# Altium footprint library Pinheaders.PcbLib: 13 footprints
Each footprint in its own frame and in the unit in brackets; x right, y up, seen from the top. Pads: shape width x height; smd on the part's side, far side on the other; paste and mask are expansions set on the pad; w line width, h text height; cw(c..) or ccw(c..) is an arc to the next point about the centre after c.
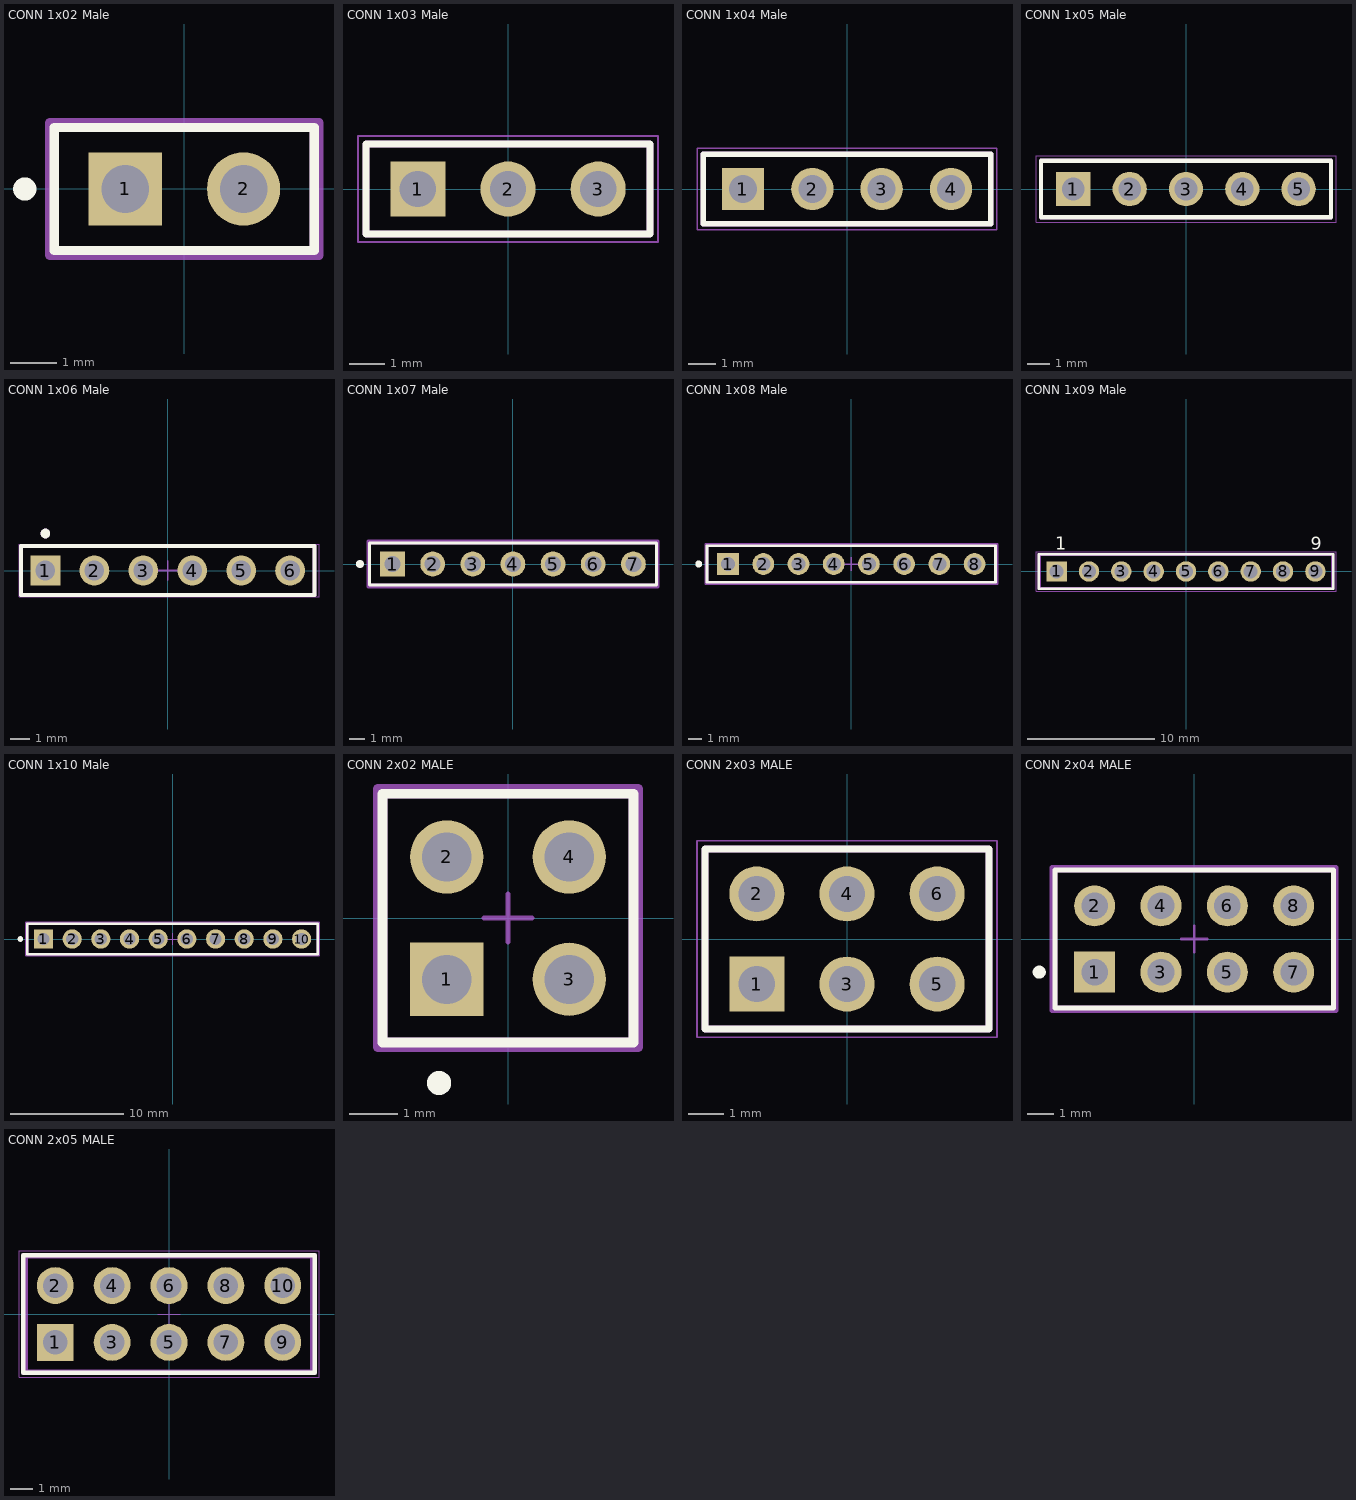
[diagram p0: the footprints below, top view; thin cyan lines are the x and y axes]

## CONN 1x02 Male [mm] "CONN HEADER VERT 2POS 2.54MM"
height 1.7
pads (2):
  rect 1.57x1.57 hole 1.02 paste-1000 mask+0: 1(-1.27,0)
  round 1.57 hole 1.02 paste-1000 mask+0: 2(1.27,0)
Top Overlay:
  circle w0.25: c-3.425,0 r0.125
  lines w0.2: -2.79,-1.32 2.79,-1.32 2.79,1.32 -2.79,1.32 -2.79,-1.32
Top Assembly:
  lines w0.2: -2.89,-1.42 -2.89,1.42 2.89,1.42 2.89,-1.42 -2.89,-1.42
  text ".Designator" at -2.251,-0.226 h1
Top 3D Body:
  lines w0.2: -2.79,-1.32 2.79,-1.32 2.79,1.32 -2.79,1.32 -2.79,-1.32
Top Courtyard:
  lines w0.2: -2.89,-1.42 2.89,-1.42 2.89,1.42 -2.89,1.42 -2.89,-1.42
3D body "Conn_Harwin_M20-9990246_eec.STEP": height 0.25, standoff 0, extent -2.89,-1.42 2.89,1.42

## CONN 1x03 Male [mm] "CONN HEADER VERT 3POS 2.54MM"
height 8.58
pads (3):
  rect 1.55x1.55 hole 1.02: 1(-2.54,0)
  round 1.55 hole 1.02: 2(0,0) 3(2.54,0)
Top Overlay:
  lines w0.2: -4,-1.27 -4,1.27 4,1.27 4,-1.27 -4,-1.27
Top Assembly:
  lines w0.2: -4,-1.27 4,-1.27 4,1.27 -4,1.27 -4,-1.27
  text "'.Designator'" at -5.248,-0.825 h0.9
Top 3D Body:
  lines w0.1: -4,-1.27 -4,1.27 4,1.27 4,-1.27 -4,-1.27
Top Courtyard:
  lines w0.05: -4.225,-1.495 -4.225,1.495 4.225,1.495 4.225,-1.495 -4.225,-1.495
3D body "TSW-103-07-X-S.step": height 8.38, standoff -2.54, extent -3.81,-1.27 3.81,1.27

## CONN 1x04 Male [mm] "CONN HEADER VERT 4POS 2.54MM"
height 8.58
pads (4):
  rect 1.55x1.55 hole 1.02: 1(-3.81,0)
  round 1.55 hole 1.02: 2(-1.27,0) 3(1.27,0) 4(3.81,0)
Top Overlay:
  lines w0.2: -5.27,-1.27 5.27,-1.27 5.27,1.27 -5.27,1.27 -5.27,-1.27
Top Assembly:
  lines w0.2: -5.27,-1.27 5.27,-1.27 5.27,1.27 -5.27,1.27 -5.27,-1.27
  text "'.Designator'" at -5.248,-0.825 h0.9
Top 3D Body:
  lines w0.1: -5.27,-1.27 5.27,-1.27 5.27,1.27 -5.27,1.27 -5.27,-1.27
Top Courtyard:
  lines w0.05: -5.495,-1.495 5.495,-1.495 5.495,1.495 -5.495,1.495 -5.495,-1.495
3D body "TSW-104-08-X-S.step": height 8.38, standoff -5.08, extent -5.08,-1.27 5.08,1.27

## CONN 1x05 Male [mm] "CONN HEADER VERT 5POS 2.54MM"
height 5.41
pads (5):
  rect 1.55x1.55 hole 1.02: 1(-5.08,0)
  round 1.55 hole 1.02: 2(-2.54,0) 3(0,0) 4(2.54,0) 5(5.08,0)
Top Overlay:
  lines w0.2: -6.54,-1.27 -6.54,1.27 6.54,1.27 6.54,-1.27 -6.54,-1.27
Top Assembly:
  lines w0.2: -6.54,-1.27 -6.54,1.27 6.54,1.27 6.54,-1.27 -6.54,-1.27
  text "'.Designator'" at -5.248,-0.825 h0.9
Top 3D Body:
  lines w0.1: -6.54,-1.27 -6.54,1.27 6.54,1.27 6.54,-1.27 -6.54,-1.27
Top Courtyard:
  lines w0.05: -6.765,-1.495 -6.765,1.495 6.765,1.495 6.765,-1.495 -6.765,-1.495
3D body "TSW-105-05-X-S.step": height 5.21, standoff -3.3, extent -6.35,-1.27 6.35,1.27

## CONN 1x06 Male [mm] "CONN HEADER VERT 6POS 2.54MM"
height 8.38
pads (6):
  rect 1.55x1.55 hole 1.02: 1(-6.35,0)
  round 1.55 hole 1.02: 2(-3.81,0) 3(-1.27,0) 4(1.27,0) 5(3.81,0) 6(6.35,0)
Top Overlay:
  circle w0.25: c-6.35,1.92 r0.125
  lines w0.2: -7.62,-1.27 -7.62,1.27 7.62,1.27 7.62,-1.27 -7.62,-1.27
Top Assembly:
  circle w0.25: c-6.35,1.92 r0.125
  lines w0.2: -7.62,-1.27 -7.62,1.27 7.62,1.27 7.62,-1.27 -7.62,-1.27
  text "'.Designator'" at -5.248,-0.825 h0.9
Top 3D Body:
  lines w0.1: -7.62,-1.27 -7.62,1.27 7.62,1.27 7.62,-1.27 -7.62,-1.27
Top Courtyard:
  lines w0.05: -7.72,-1.37 7.847,-1.37 7.847,1.37 -7.72,1.37 -7.72,-1.37
  lines w0.1: -0.5,0 0.5,0 ; 0,-0.5 0,0.5
3D body "TSW-106-07-S-S.stp": height 8.38, standoff -2.54, extent -7.62,-1.27 7.747,1.27

## CONN 1x07 Male [mm] "CONN HEADER VERT 7POS 2.54MM"
height 8.38
pads (7):
  rect 1.57x1.57 hole 1.02 paste-1000 mask+0: 1(-7.62,0)
  round 1.57 hole 1.02 paste-1000 mask+0: 2(-5.08,0) 3(-2.54,0) 4(0,0) 5(2.54,0) 6(5.08,0) 7(7.62,0)
Top Overlay:
  circle w0.25: c-9.68,0 r0.125
  lines w0.2: -9.08,-1.335 9.08,-1.335 9.08,1.335 -9.08,1.335 -9.08,-1.335
Top Assembly:
  lines w0.2: -9.18,-1.435 9.18,-1.435 9.18,1.435 -9.18,1.435 -9.18,-1.435
  text ".Designator" at -5.632,-0.566 h2.5
Top 3D Body:
  lines w0.2: -9.08,-1.335 9.08,-1.335 9.08,1.335 -9.08,1.335 -9.08,-1.335
Top Courtyard:
  lines w0.2: -9.18,-1.435 9.18,-1.435 9.18,1.435 -9.18,1.435 -9.18,-1.435
Bottom Courtyard:
  lines w0.1: -0.5,0 0.5,0 ; 0,-0.5 0,0.5
3D body "Conn_SAMTEC_TSW-107-07-G-S_eec.STEP": height 0.25, standoff 0, extent -9.18,-1.435 9.18,1.435

## CONN 1x08 Male [mm] "CONN HEADER VERT 8POS 2.54MM"
height 8.38
pads (8):
  rect 1.57x1.57 hole 1.02 paste-1000 mask+0: 1(-8.89,0)
  round 1.57 hole 1.02 paste-1000 mask+0: 2(-6.35,0) 3(-3.81,0) 4(-1.27,0) 5(1.27,0) 6(3.81,0) 7(6.35,0) 8(8.89,0)
Top Overlay:
  circle w0.25: c-11.01,0 r0.125
  lines w0.2: -10.41,-1.32 -10.41,1.32 10.41,1.32 10.41,-1.32 -10.41,-1.32
Top Assembly:
  lines w0.2: -10.51,-1.42 -10.51,1.42 10.51,1.42 10.51,-1.42 -10.51,-1.42
  text ".Designator" at -5.632,-0.566 h2.5
Top 3D Body:
  lines w0.2: -10.41,-1.32 -10.41,1.32 10.41,1.32 10.41,-1.32 -10.41,-1.32
Top Courtyard:
  lines w0.2: -10.51,-1.42 -10.51,1.42 10.51,1.42 10.51,-1.42 -10.51,-1.42
Bottom Courtyard:
  lines w0.1: -0.5,0 0.5,0 ; 0,-0.5 0,0.5
3D body "Conn_Harwin_M20-9990846_eec.STEP": height 0.25, standoff 0, extent -10.51,-1.42 10.51,1.42

## CONN 1x09 Male [mm] "CONN HEADER VERT 9POS 2.54MM"
height 8.54
pads (9):
  rect 1.6x1.6 hole 1.1: 1(-10.16,0)
  round 1.6 hole 1.1: 2(-7.62,0) 3(-5.08,0) 4(-2.54,0) 5(0,0) 6(2.54,0) 7(5.08,0) 8(7.62,0) 9(10.16,0)
Top Overlay:
  lines w0.2: -11.58,-1.345 11.58,-1.345 11.58,1.345 -11.58,1.345 -11.58,-1.345
  text "1" at -10.28,1.7 h1.02
  text "9" at 9.78,1.7 h1.02
Top Assembly:
  lines w0.2: -11.58,-1.345 11.58,-1.345 11.58,1.345 -11.58,1.345 -11.58,-1.345
  text "1" at -10.28,1.7 h1.02
  text "9" at 9.78,1.7 h1.02
  text "'.Designator'" at -5.248,-0.825 h0.9
Top 3D Body:
  lines w0.1: -11.43,-1.27 -11.43,1.27 11.43,1.27 11.43,-1.27 -11.43,-1.27
Top Courtyard:
  lines w0.05: -0.5,0 0.5,0 ; 0,-0.5 0,0.5 ; -11.78,-1.545 -11.78,1.545 11.78,1.545 11.78,-1.545 -11.78,-1.545
3D body "61300911121.stp": height 8.57, standoff -2.97, extent -11.43,-1.27 11.43,1.27

## CONN 1x10 Male [mm] "CONN HEADER VERT 10POS 2.54MM"
height 8.54
pads (10):
  rect 1.7x1.7 hole 1.1 paste-1000 mask+0: 1(-11.43,0)
  round 1.7 hole 1.1 paste-1000 mask+0: 2(-8.89,0) 3(-6.35,0) 4(-3.81,0) 5(-1.27,0) 6(1.27,0) 7(3.81,0) 8(6.35,0) 9(8.89,0) 10(11.43,0)
Top Overlay:
  circle w0.25: c-13.475,0 r0.125
  lines w0.2: -12.875,-1.345 -12.875,1.345 12.875,1.345 12.875,-1.345 -12.875,-1.345
Top Assembly:
  lines w0.2: -12.975,-1.445 -12.975,1.445 12.975,1.445 12.975,-1.445 -12.975,-1.445
  text "'.Designator'" at -5.248,-0.825 h0.9
Top 3D Body:
  lines w0.2: -12.875,-1.345 -12.875,1.345 12.875,1.345 12.875,-1.345 -12.875,-1.345
Top Courtyard:
  lines w0.2: -12.975,-1.445 -12.975,1.445 12.975,1.445 12.975,-1.445 -12.975,-1.445
Bottom Courtyard:
  lines w0.1: -0.5,0 0.5,0 ; 0,-0.5 0,0.5
3D body "IC_Wurth_Electronics_61301011121_eec.STEP": height 0.25, standoff 0, extent -12.975,-1.445 12.975,1.445

## CONN 2x02 MALE [mm] "CONN HEADER MALE 4POS 2.54MM"
height 8.54
pads (4):
  rect 1.52x1.52 hole 1.02 paste-1000 mask+0: 1(-1.27,-1.27)
  round 1.52 hole 1.02 paste-1000 mask+0: 2(-1.27,1.27) 3(1.27,-1.27) 4(1.27,1.27)
Top Overlay:
  circle w0.25: c-1.43,-3.42 r0.125
  lines w0.2: -2.603,-2.58 -2.603,2.58 2.603,2.58 2.603,-2.58 -2.603,-2.58
Top Assembly:
  lines w0.2: -2.703,-2.68 -2.703,2.68 2.703,2.68 2.703,-2.68 -2.703,-2.68
  text "'.Designator'" at -5.248,-0.825 h0.9
Top 3D Body:
  lines w0.2: -2.603,-2.58 -2.603,2.58 2.603,2.58 2.603,-2.58 -2.603,-2.58
Top Courtyard:
  lines w0.2: -2.703,-2.68 -2.703,2.68 2.703,2.68 2.703,-2.68 -2.703,-2.68
Bottom Courtyard:
  lines w0.1: -0.5,0 0.5,0 ; 0,-0.5 0,0.5
3D body "Conn_Samtec_HTSW-102-07-G-D_eec.STEP": height 0.25, standoff 0, extent -2.703,-2.68 2.703,2.68

## CONN 2x03 MALE [mm] "CONN HEADER MALE 6POS 2.54MM"
height 8.58
pads (6):
  rect 1.55x1.55 hole 1.02: 1(-2.54,-1.27)
  round 1.55 hole 1.02: 2(-2.54,1.27) 3(0,-1.27) 4(0,1.27) 5(2.54,-1.27) 6(2.54,1.27)
Top Overlay:
  lines w0.2: -4,-2.54 4,-2.54 4,2.54 -4,2.54 -4,-2.54
Top Assembly:
  lines w0.2: -4,-2.54 4,-2.54 4,2.54 -4,2.54 -4,-2.54
  text "'.Designator'" at -5.248,-0.825 h0.9
Top 3D Body:
  lines w0.1: -4,-2.54 4,-2.54 4,2.54 -4,2.54 -4,-2.54
Top Courtyard:
  lines w0.05: -4.225,-2.765 4.225,-2.765 4.225,2.765 -4.225,2.765 -4.225,-2.765
3D body "TSW-103-08-X-D.step": height 8.38, standoff -5.08, extent -3.81,-2.54 3.81,2.54

## CONN 2x04 MALE [mm] "CONN HEADER MALE 8POS 2.54MM"
height 8.58
pads (8):
  rect 1.57x1.57 hole 1.02 paste-1000 mask+0: 1(-3.81,-1.27)
  round 1.57 hole 1.02 paste-1000 mask+0: 2(-3.81,1.27) 3(-1.27,-1.27) 4(-1.27,1.27) 5(1.27,-1.27) 6(1.27,1.27) 7(3.81,-1.27) 8(3.81,1.27)
Top Overlay:
  circle w0.25: c-5.93,-1.27 r0.125
  lines w0.2: -5.33,-2.64 5.33,-2.64 5.33,2.64 -5.33,2.64 -5.33,-2.64
Top Assembly:
  lines w0.2: -5.43,-2.74 5.43,-2.74 5.43,2.74 -5.43,2.74 -5.43,-2.74
  text "'.Designator'" at -5.248,-0.825 h0.9
Top 3D Body:
  lines w0.2: -5.33,-2.64 5.33,-2.64 5.33,2.64 -5.33,2.64 -5.33,-2.64
Top Courtyard:
  lines w0.2: -5.43,-2.74 5.43,-2.74 5.43,2.74 -5.43,2.74 -5.43,-2.74
Bottom Courtyard:
  lines w0.1: -0.5,0 0.5,0 ; 0,-0.5 0,0.5
3D body "Conn_Harwin_M20-9980446_eec.STEP": height 0.25, standoff 0, extent -5.43,-2.74 5.43,2.74

## CONN 2x05 MALE [mm] "CONN HEADER MALE 10POS 2.54MM"
height 8.54
pads (10):
  rect 1.65x1.65 hole 1.1: 1(-5.08,-1.27)
  round 1.65 hole 1.1: 2(-5.08,1.27) 3(-2.54,-1.27) 4(-2.54,1.27) 5(0,-1.27) 6(0,1.27) 7(2.54,-1.27) 8(2.54,1.27) 9(5.08,-1.27) 10(5.08,1.27)
Top Overlay:
  lines w0.2: -6.5,-2.615 -6.5,2.615 6.5,2.615 6.5,-2.615 -6.5,-2.615
Top Assembly:
  lines w0.2: -6.5,-2.615 -6.5,2.615 6.5,2.615 6.5,-2.615 -6.5,-2.615
  text "'.Designator'" at -5.248,-0.825 h0.9
Top 3D Body:
  lines w0.1: -6.35,-2.54 -6.35,2.54 6.35,2.54 6.35,-2.54 -6.35,-2.54
Top Courtyard:
  lines w0.05: -0.5,0 0.5,0 ; 0,-0.5 0,0.5 ; -6.7,-2.815 6.7,-2.815 6.7,2.815 -6.7,2.815 -6.7,-2.815
3D body "61301021121.stp": height 8.59, standoff -2.95, extent -6.35,-2.54 6.35,2.54